# EAGLE library part XE_PBI (library host)
Atari XE ECI/PBI port layout
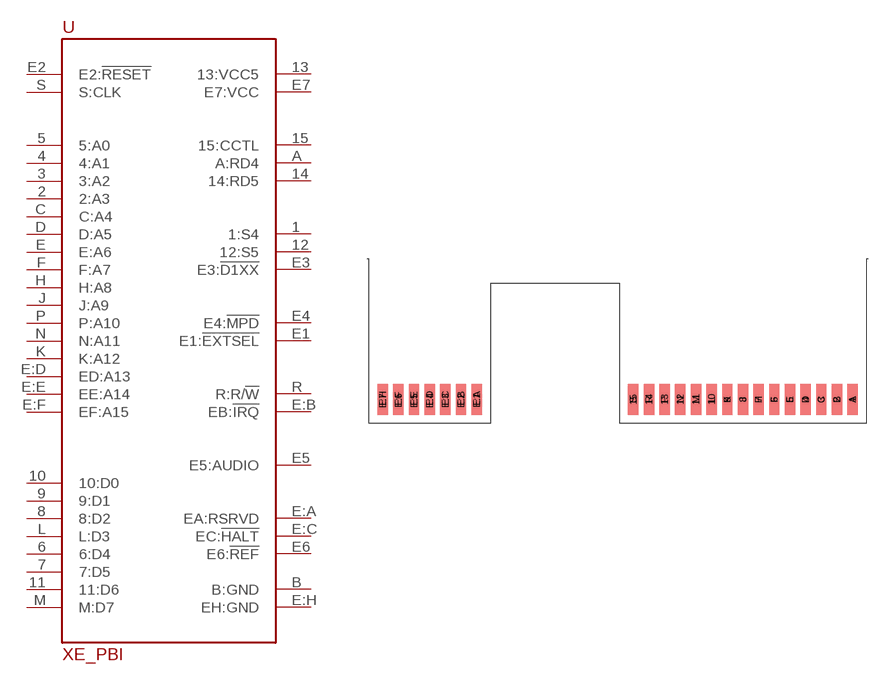
[diagram p0: symbol with the pads of XE_PBI; footprint XE_PBI]

Designator prefix -

## XE_PBI  [XE_PBI]
1  1:S4
2  2:A3
3  3:A2
4  4:A1
5  5:A0
6  6:D4
7  7:D5
8  8:D2
9  9:D1
10  10:D0
11  11:D6
12  12:S5
13  13:VCC5
14  14:RD5
15  15:CCTL
A  A:RD4
B  B:GND
C  C:A4
D  D:A5
E  E:A6
E1  E1:!EXTSEL!
E2  E2:!RESET!
E3  E3:!D1XX!
E4  E4:!MPD!
E5  E5:AUDIO
E6  E6:!REF!
E7  E7:VCC
E:A  EA:RSRVD
E:B  EB:!IRQ!
E:C  EC:!HALT!
E:D  ED:A13
E:E  EE:A14
E:F  EF:A15
E:H  EH:GND
F  F:A7
H  H:A8
J  J:A9
K  K:A12
L  L:D3
M  M:D7
N  N:A11
P  P:A10
R  R:R/!W!
S  S:CLK

## Footprint XE_PBI (pad centres in mm)
smd 1.684 x 5.052 bottom: 1 36.83,2.54; 2 34.29,2.54; 3 31.75,2.54; 4 29.21,2.54; 5 26.67,2.54; 6 24.13,2.54; 7 21.59,2.54; 8 19.05,2.54; 9 16.51,2.54; 10 13.97,2.54; 11 11.43,2.54; 12 8.89,2.54; 13 6.35,2.54; 14 3.81,2.54; 15 1.27,2.54; E1 -24.13,2.54; E2 -26.67,2.54; E3 -29.21,2.54; E4 -31.75,2.54; E5 -34.29,2.54; E6 -36.83,2.54; E7 -39.37,2.54
smd 1.684 x 5.052: A 36.83,2.54; B 34.29,2.54; C 31.75,2.54; D 29.21,2.54; E 26.67,2.54; E:A -24.13,2.54; E:B -26.67,2.54; E:C -29.21,2.54; E:D -31.75,2.54; E:E -34.29,2.54; E:F -36.83,2.54; E:H -39.37,2.54; F 24.13,2.54; H 21.59,2.54; J 19.05,2.54; K 16.51,2.54; L 13.97,2.54; M 11.43,2.54; N 8.89,2.54; P 6.35,2.54; R 3.81,2.54; S 1.27,2.54